# Altium footprint library Power Supplies.PcbLib: 1 footprints
Each footprint in its own frame and in the unit in brackets; x right, y up, seen from the top. Pads: shape width x height; smd on the part's side, far side on the other; paste and mask are expansions set on the pad; w line width, h text height; cw(c..) or ccw(c..) is an arc to the next point about the centre after c.

## PCBComponent_1 [mm]
Top Designator:
  text ".Designator" at -1.2,0.75 h0.5
Top Value:
  text ".Comment" at -1.2,0.325 h0.5